# Altium schematic symbol library NEO-M9N-00B.SchLib: 1 symbol
Pins are listed as number, name and electrical type; pins without a type are passive.

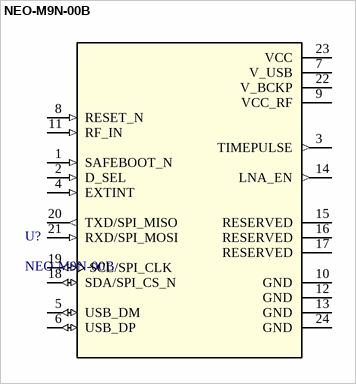
[diagram p0: symbol NEO-M9N-00B]

## NEO-M9N-00B
designator U?
series RF Receiver BeiDou, Galileo, GLONASS, GNSS, GPS - -167dBm - - Module; Manufacturer: u-blox; Manufacturer_PN: NEO-M9N-00B; Package: SMD-24 u-blox; Datasheet: https://content.u-blox.com/sites/default/files/NEO-M9N-00B_DataSheet_UBX-19014285.pdf; Digikey_Link: https://www.digikey.it/en/products/detail/u-blox/NEO-M9N-00B/12149174
footprint XCVR_NEO-M9N-00B
pins: 1 SAFEBOOT_N (in), 2 D_SEL (in), 3 TIMEPULSE (out), 4 EXTINT (in), 5 USB_DM (io), 6 USB_DP (io), 7 V_USB (power), 8 RESET_N (in), 9 VCC_RF (power), 10 GND (power), 11 RF_IN (in), 12 GND (power), 13 GND (power), 14 LNA_EN (out), 15 RESERVED, 16 RESERVED, 17 RESERVED, 18 SDA/SPI_CS_N (io), 19 SCL/SPI_CLK (io), 20 TXD/SPI_MISO (out), 21 RXD/SPI_MOSI (in), 22 V_BCKP (power), 23 VCC (power), 24 GND (power)